# EAGLE library part HMC190BMS8E (library HMC190BMS8E)
RF Switch SPDT 0MHz to 3GHz 19dB 8-Pin MSOP Cut Tape Source: Datasheet <https://www.arrow.com/en/products/hmc190bms8e/analog-devices>
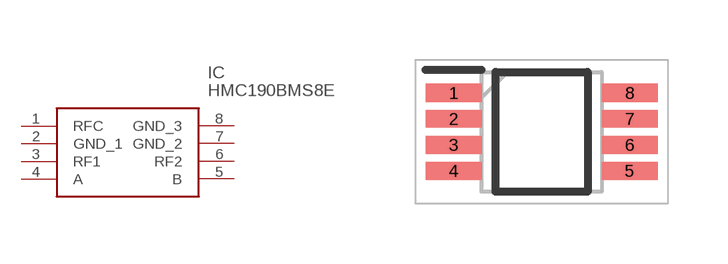
[diagram p0: symbol with the pads of SOP65P488X110-8N; footprint SOP65P488X110-8N]

Designator prefix IC

## HMC190BMS8E (Description: RF Switch SPDT 0MHz to 3GHz 19dB 8-Pin MSOP Cut Tape; Height: 1.1mm; Manufacturer_Name: Analog Devices; Manufacturer_Part_Number: HMC190BMS8E; Mouser_Part_Number: 584-HMC190BMS8E; Mouser_Price-Stock: https://www.mouser.co.uk/ProductDetail/Analog-Devices/HMC190BMS8E?qs=664zcAxDQ0nfgyX38XAa6g%3D%3D)  [SOP65P488X110-8N]
1  RFC
2  GND_1
3  RF1
4  A
5  B
6  RF2
7  GND_2
8  GND_3

## Footprint SOP65P488X110-8N (pad centres in mm)
HMC189AMS8ETR
smd 1.4 x 0.45: 1 -2.2,0.975; 2 -2.2,0.325; 3 -2.2,-0.325; 4 -2.2,-0.975; 5 2.2,-0.975; 6 2.2,-0.325; 7 2.2,0.325; 8 2.2,0.975